# EAGLE library part PC1222 (library #PaJa_31)
Potenciometr - kovovy - stereo - 1k az 1M
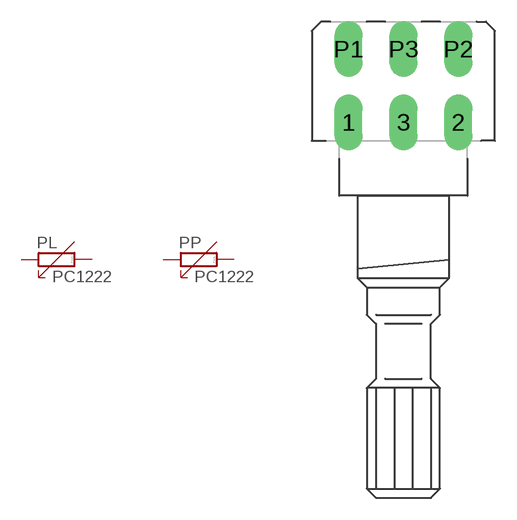
[diagram p64: symbol with the pads of PC1222; footprint PC1222]

Designator prefix P; gates L=POTENCIO P=POTENCIO

## PC1222  [PC1222]
1  L:1  pas
2  L:2  pas
3  L:3  pas
P1  P:1  pas
P2  P:2  pas
P3  P:3  pas

## Footprint PC1222 (pad centres in mm)
drill 1.2 pad 1.93 long: 1 -3.81,0; 2 3.81,0; 3 0,0; P1 -3.81,5.08; P2 3.81,5.08; P3 0,5.08